# Altium footprint library QSOP-16_150mil.PcbLib: 1 footprints
Each footprint in its own frame and in the unit in brackets; x right, y up, seen from the top. Pads: shape width x height; smd on the part's side, far side on the other; paste and mask are expansions set on the pad; w line width, h text height; cw(c..) or ccw(c..) is an arc to the next point about the centre after c.
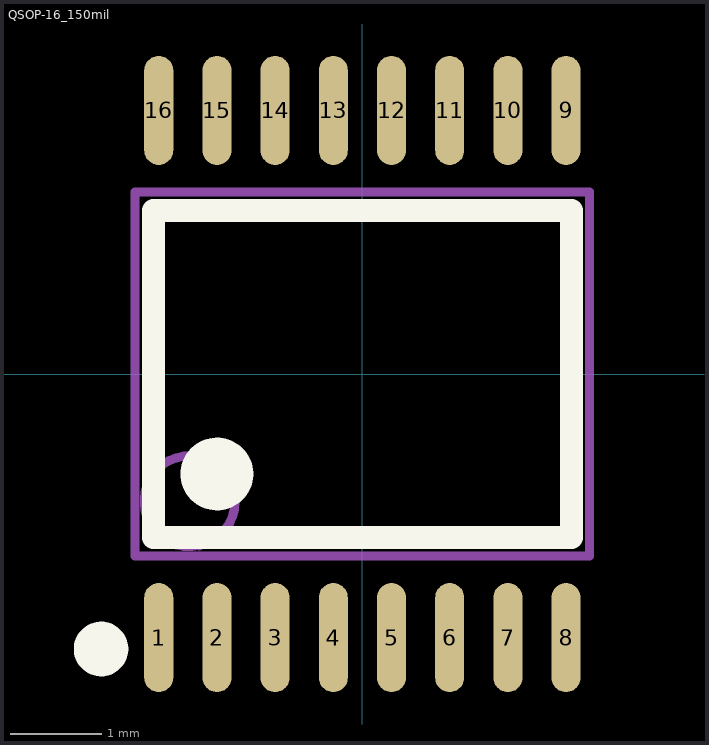
[diagram p0: the footprint, top view; thin cyan lines are the x and y axes]

## QSOP-16_150mil [mm]
pads (16):
  oval 0.32x1.2 smd: 1(-2.24,-2.9) 2(-1.6,-2.9) 3(-0.96,-2.9) 4(-0.32,-2.9) 5(0.32,-2.9) 6(0.96,-2.9) 7(1.6,-2.9) 8(2.24,-2.9) 9(2.24,2.9) 10(1.6,2.9) 11(0.96,2.9) 12(0.32,2.9) 13(-0.32,2.9) 14(-0.96,2.9) 15(-1.6,2.9) 16(-2.24,2.9)
Top Overlay:
  circle w0.3: c-2.875,-3.025 r0.15
  circle w0.4: c-1.6,-1.1 r0.2
  lines w0.254: -2.3,-1.8 2.3,-1.8 2.3,1.8 -2.3,1.8 -2.3,-1.8
Mechanical 13:
  circle w0.1: c-1.9,-1.4 r0.5
  lines w0.1: -2.5,-2 -2.5,2 2.5,2 2.5,-2 -2.5,-2